# Altium integrated library PCB_Project1.IntLib: 4 symbols
Pins are listed as number, name and electrical type; pins without a type are passive.

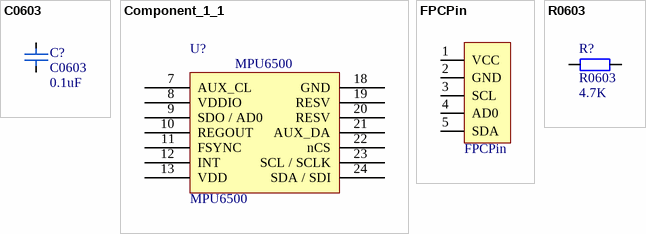
[diagram p0: symbols C0603 to R0603]

## C0603
designator C?  value 0.1uF
footprint CAPC1608X09N (Chip Capacitor, 2-Leads, Body 1.60x0.80mm, IPC Medium Density)
pins: 1, 2

## Component_1_1
designator U?, comment MPU6500
footprint QFN40P300X300X90_HS-25N (QFN, 24-Leads, Body 3.00x3.00mm, Pitch 0.40mm, Thermal Pad 1.54x1.70mm, IPC Medium Density)
pins: 7 AUX_CL, 8 VDDIO, 9 SDO / AD0, 10 REGOUT, 11 FSYNC, 12 INT, 13 VDD, 18 GND, 19 RESV, 20 RESV, 21 AUX_DA, 22 nCS, 23 SCL / SCLK, 24 SDA / SDI

## FPCPin
designator *?
footprint FPCPin_5
pins: 1 VCC, 2 GND, 3 SCL, 4 AD0, 5 SDA

## R0603
designator R?  value 4.7K
footprint RESC1608X09N (Chip Resistor, 2-Leads, Body 1.60x0.80mm, IPC Medium Density)
pins: 1, 2